# Altium schematic symbol library STM32F042F4P6.Schlib: 1 symbol
Pins are listed as number, name and electrical type; pins without a type are passive.

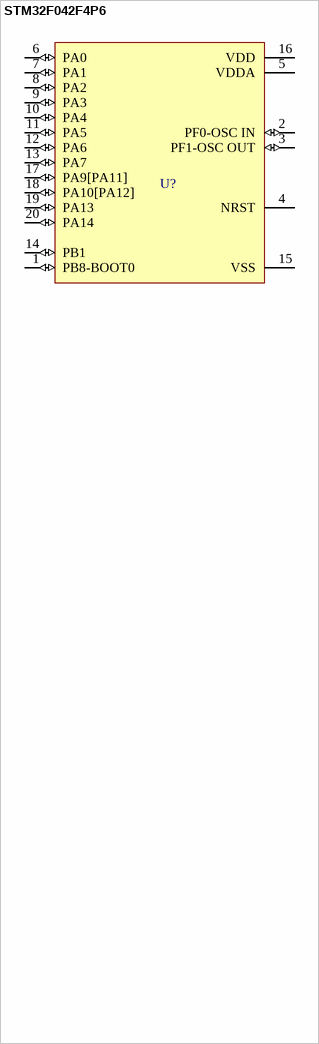
[diagram p0: symbol STM32F042F4P6]

## STM32F042F4P6
designator U?
ARM Cortex-M0
pins: 1 PB8-BOOT0 (io), 2 PF0-OSC IN (io), 3 PF1-OSC OUT (io), 4 NRST, 5 VDDA (power), 6 PA0 (io), 7 PA1 (io), 8 PA2 (io), 9 PA3 (io), 10 PA4 (io), 11 PA5 (io), 12 PA6 (io), 13 PA7 (io), 14 PB1 (io), 15 VSS (power), 16 VDD (power), 17 PA9[PA11] (io), 18 PA10[PA12] (io), 19 PA13 (io), 20 PA14 (io)